# Altium footprint library adafruit.PCBLIB: 624 footprints (part 39 of 39)
Each footprint in its own frame and in the unit in brackets; x right, y up, seen from the top. Pads: shape width x height; smd on the part's side, far side on the other; paste and mask are expansions set on the pad; w line width, h text height; cw(c..) or ccw(c..) is an arc to the next point about the centre after c.
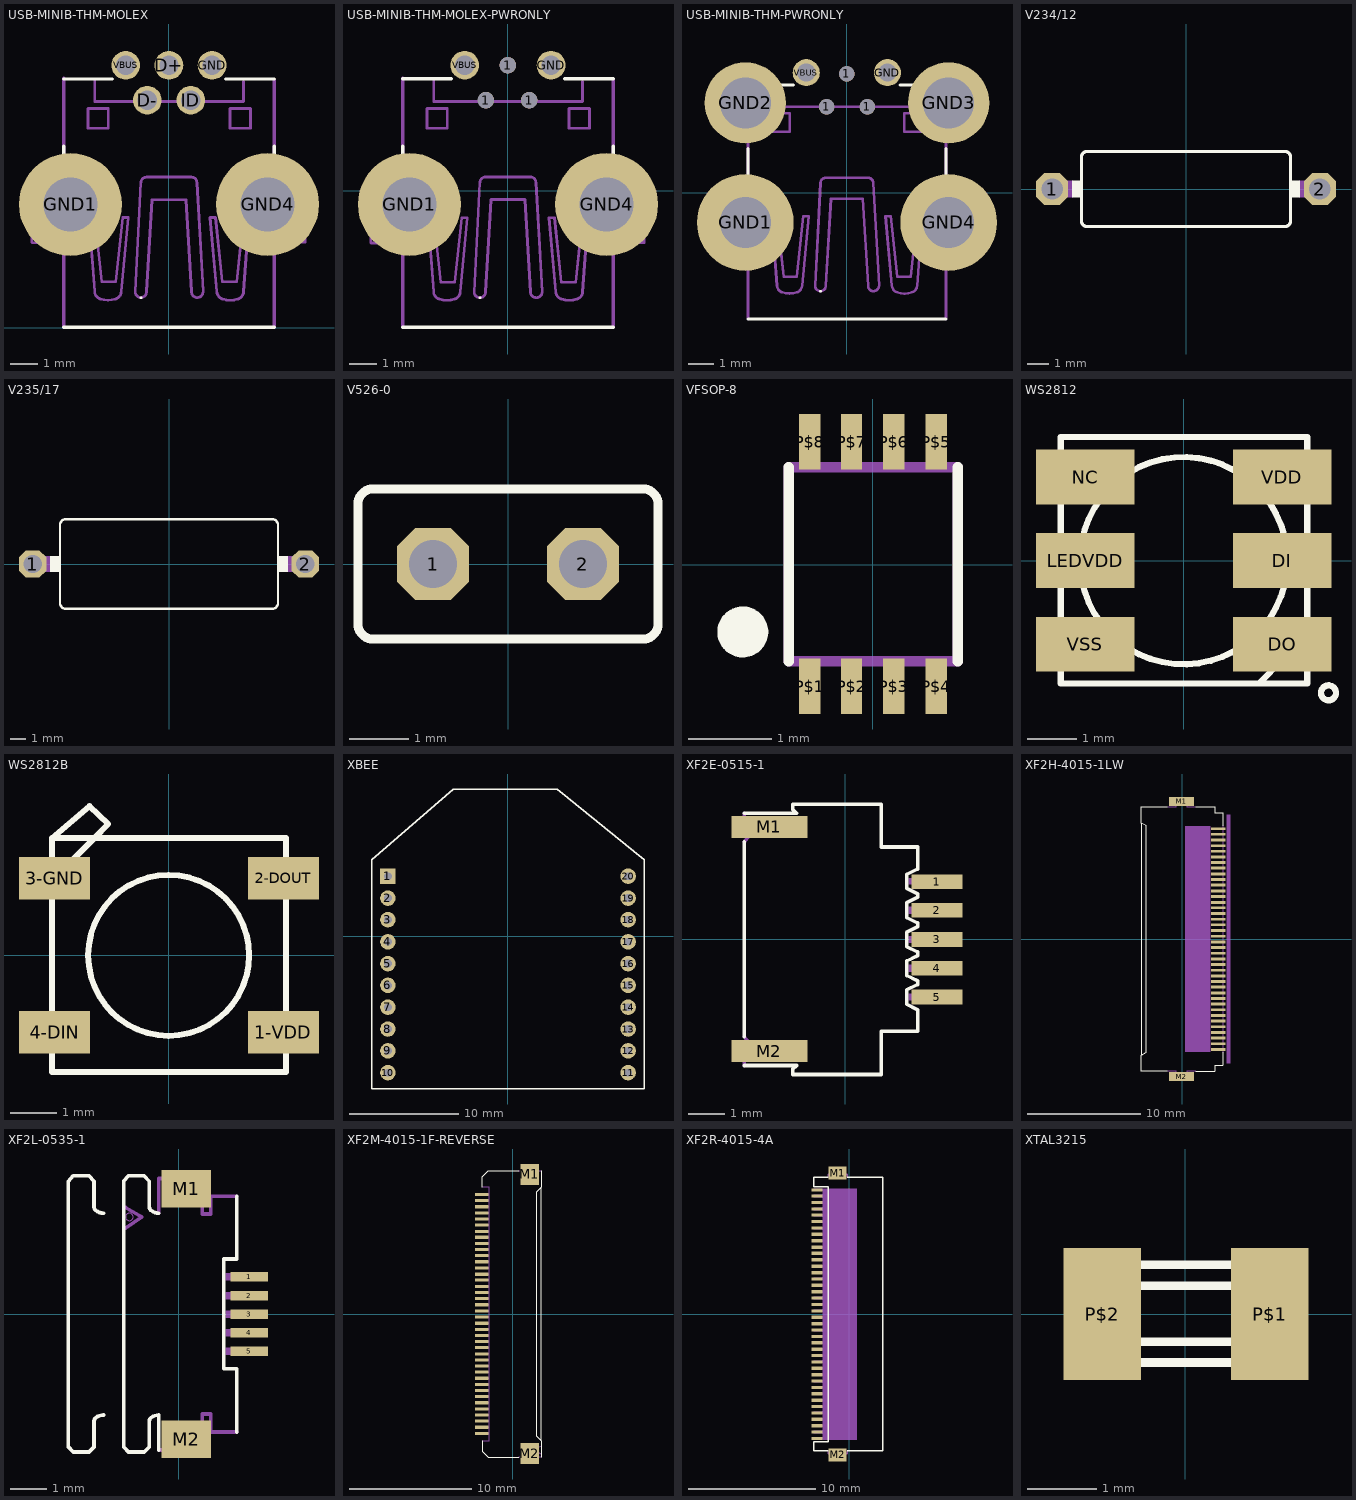
[diagram p38: the footprints below, top view; thin cyan lines are the x and y axes]

## USB-MINIB-THM-MOLEX [mil]
pads (7):
  round 42 hole 28: D+(0,383) D-(-31.5,332) GND(63,383) ID(32,332) VBUS(-62.99,383)
  round 150 hole 79: GND1(-143.7,180) GND4(144,180)
Top Overlay:
  lines w4: -40.88,44 -40.87,44
  lines w5: -153.54,1 154,1 ; -153.54,159 -153.54,265 ; -153.54,363 -82.68,363 ; 83,363 154,363 ; 154,182 154,265
Mechanical 16:
  lines w4: -200,125 -200,138 ccw(c-200,150) -200,162 -200,178 ; -199.21,124 -153.94,124 ; -199.21,178 -153.94,178 ; -108.27,360 -108.27,330 109,330 109,360 ; -40.88,44 cw(c-40.46,52.59) -49.05,53 -40.88,212 cw(c-32.33,211.44) -32.7,220 33,220 cw(c32.54,211.54) 41,212 50,53 cw(c41,53) 41,44 cw(c41.5,52.5) 33,53 25,187 -24.54,187 -32.7,53 cw(c-41.29,52.59) -40.87,44 ; 153,125 199,125 ; 153,179 199,179 199,165 ccw(c199,153) 199,141 199,126 ; -118.11,291 -88.58,291 -88.58,320 -118.11,320 -118.11,291 ; -116.5,161 -108.32,53 ccw(c-96.18,53.49) -100.15,42 ccw(c-88.91,78.66) -77.67,42 ccw(c-81.64,53.49) -69.49,53 -59.27,161 -67.45,161 -77.67,67 -98.11,67 -108.32,161 -116.5,161 ; 60,161 70,53 ccw(c82.06,53.36) 78,42 ccw(c89.5,79.5) 101,42 ccw(c96.94,53.36) 109,53 117,161 109,161 99,67 78,67 68,161 60,161 ; 89,291 89,320 119,320 119,291 89,291
  lines w5: -153.54,1 -153.54,123 ; -153.54,179 -153.54,364 ; 154,1 154,123 ; 154,181 154,362

## USB-MINIB-THM-MOLEX-PWRONLY [mil]
pads (7):
  round 24 hole 24: 1(-32,132) 1(0,183) 1(31,132)
  round 42 hole 28: GND(63,183) VBUS(-62.99,183)
  round 150 hole 79: GND1(-143.7,-20.08) GND4(144,-20.08)
Top Overlay:
  lines w4: -40.88,-156.15 -40.87,-156.15
  lines w5: -153.54,-199.21 154,-199.21 ; -153.54,-41.73 -153.54,65 ; -153.54,163 -82.68,163 ; 83,163 154,163 ; 154,-18.11 154,65
Mechanical 16:
  lines w4: -200,-75.98 -200,-62.2 ccw(c-200,-50.39) -200,-38.58 -200,-22.83 ; -199.21,-76.35 -153.94,-76.35 ; -199.21,-22.08 -153.94,-22.08 ; -108.27,160 -108.27,130 109,130 109,160 ; -40.88,-156.15 cw(c-40.88,-147.97) -49.05,-147.97 -40.88,12 cw(c-32.33,11.44) -32.7,20 33,20 cw(c32.54,11.54) 41,12 50,-147.97 cw(c41.41,-147.56) 41,-156.15 cw(c41.09,-148.06) 33,-147.97 25,-13.08 -24.54,-13.08 -32.7,-147.97 cw(c-40.87,-147.97) -40.87,-156.15 ; 153,-75.56 199,-75.56 ; 153,-21.28 199,-21.28 ; 199,-74.8 199,-59.06 cw(c199,-47.24) 199,-35.43 199,-21.65 ; -118.11,91 -88.58,91 -88.58,120 -118.11,120 -118.11,91 ; -116.5,-39.65 -108.32,-147.97 ccw(c-96.75,-147.09) -100.15,-158.19 ccw(c-88.91,-121.53) -77.67,-158.19 ccw(c-81.06,-147.09) -69.49,-147.97 -59.27,-39.65 -67.45,-39.65 -77.67,-133.67 -98.11,-133.67 -108.32,-39.65 -116.5,-39.65 ; 60,-39.65 70,-147.97 ccw(c81.48,-147.22) 78,-158.19 ccw(c89.5,-120.69) 101,-158.19 ccw(c97.52,-147.22) 109,-147.97 117,-39.65 109,-39.65 99,-133.67 78,-133.67 68,-39.65 60,-39.65 ; 89,91 89,120 119,120 119,91 89,91
  lines w5: -153.54,-199.21 -153.54,-77.17 ; -153.54,-21.65 -153.54,164 ; 154,-199.21 154,-77.17 ; 154,-19.68 154,162

## USB-MINIB-THM-PWRONLY [mil]
pads (9):
  round 24 hole 24: 1(-31.5,133) 1(0,184) 1(32,133)
  round 42 hole 28: GND(63,186) VBUS(-62.99,186)
  round 150 hole 79: GND1(-157.48,-46.46) GND4(158,-46.46)
  round 126 hole 79: GND2(-157.48,139) GND3(158,139)
Top Overlay:
  lines w4: -40.88,-153 -40.87,-153
  lines w5: -153.54,-196.06 154,-196.06 ; -153.54,-38.58 -153.54,68 ; -125.98,167 -82.68,167 ; 83,167 126,167 ; 154,-14.96 154,68
Mechanical 16:
  lines w4: -200,-72.83 -200,-59.06 ccw(c-200,-47.24) -200,-35.43 -200,-19.68 ; -200,99 -200,112 ccw(c-200,124) -200,136 -200,152 ; -199.21,-73.2 -153.94,-73.2 ; -199.21,-18.93 -153.94,-18.93 ; -199.21,98 -153.94,98 ; -199.21,152 -153.94,152 ; -108.27,163 -108.27,133 109,133 109,163 ; -40.88,-153 cw(c-40.88,-144.82) -49.05,-144.82 -40.88,15 cw(c-32.33,14.44) -32.7,23 33,23 cw(c32.54,14.54) 41,15 50,-144.82 cw(c41.41,-144.41) 41,-153 cw(c41.09,-144.91) 33,-144.82 25,-9.93 -24.54,-9.93 -32.7,-144.82 cw(c-40.87,-144.82) -40.87,-153 ; 153,-72.41 199,-72.41 ; 153,-18.13 199,-18.13 ; 153,99 199,99 ; 153,153 199,153 199,139 ccw(c199,127) 199,115 199,100 ; 199,-71.65 199,-55.91 cw(c199,-44.09) 199,-32.28 199,-18.5 ; -118.11,94 -88.58,94 -88.58,123 -118.11,123 -118.11,94 ; -116.5,-36.5 -108.32,-144.82 ccw(c-96.75,-143.94) -100.15,-155.04 ccw(c-88.91,-118.38) -77.67,-155.04 ccw(c-81.06,-143.94) -69.49,-144.82 -59.27,-36.5 -67.45,-36.5 -77.67,-130.52 -98.11,-130.52 -108.32,-36.5 -116.5,-36.5 ; 60,-36.5 70,-144.82 ccw(c81.48,-144.07) 78,-155.04 ccw(c89.5,-117.54) 101,-155.04 ccw(c97.52,-144.07) 109,-144.82 117,-36.5 109,-36.5 99,-130.52 78,-130.52 68,-36.5 60,-36.5 ; 89,94 89,123 119,123 119,94 89,94
  lines w5: -153.54,-196.06 -153.54,-74.02 ; -153.54,-18.5 -153.54,96 ; -153.54,153 -153.54,167 ; 154,-196.06 154,-74.02 ; 154,-16.54 154,98 ; 154,155 154,167

## V234/12 [mil]
pads (2):
  oct 60x60 hole 40: 1(-250,0) 2(250,0)
Top Overlay:
  rectangle: 195,-16 213,16
  rectangle: -213,-16 -195,16
  lines w6: -195,-60 ccw(c-185,-60) -185,-70 185,-70 ccw(c185,-60) 195,-60 195,60 ccw(c185,60) 185,70 -185,70 ccw(c-185,60) -195,60 -195,-60
Mechanical 16:
  lines w32: -250,0 -215,0 ; 215,0 250,0

## V235/17 [mil]
pads (2):
  oct 70.5x70.5 hole 47: 1(-350,0) 2(350,0)
Top Overlay:
  rectangle: 280,-20 305,20
  rectangle: -305,-20 -280,20
  lines w6: -280,-100 -280,100 cw(c-265,100) -265,115 265,115 cw(c265,100) 280,100 280,-100 cw(c265,-100) 265,-115 -265,-115 cw(c-265,-100) -280,-100
Mechanical 16:
  lines w40: -350,0 -310,0 ; 310,0 350,0

## V526-0 [mil]
pads (2):
  oct 48x48 hole 32: 1(-50,0) 2(50,0)
Top Overlay:
  lines w6: -100,-40 ccw(c-90,-40) -90,-50 90,-50 ccw(c90,-40) 100,-40 100,40 ccw(c90,40) 90,50 -90,50 ccw(c-90,40) -100,40 -100,-40

## VFSOP-8 [mil]
pads (8):
  rect 10x26 smd: P$1(-29.53,-57.09) P$2(-9.84,-57.09) P$3(10,-57.09) P$4(30,-57.09) P$5(30,58) P$6(10,58) P$7(-9.84,58) P$8(-29.53,58)
Top Overlay:
  circle w12: c-61.02,-31.5 r6
  lines w5: -39.37,-45.28 -39.37,46 ; 40,-45.28 40,46
Mechanical 16:
  rectangle: -13.78,-61.02 -5.91,-45.28
  rectangle: -33.46,-61.02 -25.59,-45.28
  rectangle: 6,-61.02 14,-45.28
  rectangle: 26,-61.02 34,-45.28
  rectangle: 26,46 34,62
  rectangle: 6,46 14,62
  rectangle: -13.78,46 -5.91,62
  rectangle: -33.46,46 -25.59,62
  lines w5: -39.37,-45.28 40,-45.28 40,46 -39.37,46 -39.37,-45.28

## WS2812 [mil]
pads (6):
  rect 79x44 smd: DI(79,0) DO(79,-66.93) LEDVDD(-78.74,0) NC(-78.74,67) VDD(79,67) VSS(-78.74,-66.93)
Top Overlay:
  circle w5: c116,-105.83 r6
  circle w5: c0,0 r83
  lines w5: 60,-98.43 99,-98.43 99,-59.06 ; 60,-98.43 -98.43,-98.43 -98.43,99 99,99 99,-59.06 ; 60,-98.43 99,-59.06

## WS2812B [mil]
pads (4):
  rect 60x36 smd: 1-VDD(97,-64.96) 2-DOUT(97,65) 3-GND(-96.46,65) 4-DIN(-96.46,-64.96)
Top Overlay:
  circle w5: c0,0 r68
  lines w5: -98.43,63 -98.43,-98.43 99,-98.43 99,99 -62.99,99 ; -98.43,63 -98.43,99 ; -98.43,63 -62.99,99 ; -98.43,99 -62.99,99 ; -98.43,99 -66.93,126 -51.18,111 -62.99,99

## XBEE [mil]
pads (20):
  rect 56x56 hole 28: 1(-433.07,217)
  round 56 hole 28: 2(-433.07,138) 3(-433.07,60) 4(-433.07,-19.68) 5(-433.07,-98.43) 6(-433.07,-177.17) 7(-433.07,-255.91) 8(-433.07,-334.65) 9(-433.07,-413.39) 10(-433.07,-492.13) 11(434,-492.13) 12(434,-413.39) 13(434,-334.65) 14(434,-255.91) 15(434,-177.17) 16(434,-98.43) 17(434,-19.68) 18(434,60) 19(434,138) 20(434,217)
Top Overlay:
  lines w5: -492.13,-551.18 493,-551.18 493,276 178,532 -196.85,532 -492.13,276 -492.13,-551.18

## XF2E-0515-1 [mil]
pads (7):
  rect 56x16 smd: 1(100,63) 2(100,32) 3(100,0) 4(100,-31.5) 5(100,-62.99)
  rect 83x24 smd: M1(-83.07,123) M2(-83.07,-122.05)
Top Overlay:
  lines w4: -110.63,-137.8 -53.54,-137.8 -57.48,-141.73 -57.48,-147.64 39,-147.64 39,-100.39 79,-100.39 79,-76.77 67,-70.87 67,-55.12 79,-49.21 79,-45.28 67,-39.37 67,-23.62 79,-17.72 79,-13.78 67,-7.87 67,8 79,14 79,18 67,24 67,40 79,46 79,50 67,56 67,71 79,77 79,101 39,101 39,148 -57.48,148 -57.48,142 -53.54,138 -110.63,138 ; -110.63,-106.3 -110.63,107
Mechanical 16:
  rectangle: 69,60 108,67
  rectangle: 69,28 108,36
  rectangle: 69,-3.94 108,4
  rectangle: 69,-35.43 108,-27.56
  rectangle: 69,-66.93 108,-59.06
  lines w4: -110.63,-137.8 -110.63,-116.14 -102.76,-116.14 -110.63,-106.3 ; -110.63,107 -102.76,117 -110.63,117 -110.63,138

## XF2H-4015-1LW [mil]
pads (42):
  rect 52x10 smd: 1(125,384) 2(125,365) 3(125,345) 4(125,325) 5(125,306) 6(125,286) 7(125,266) 8(125,247) 9(125,227) 10(125,207) 11(125,188) 12(125,168) 13(125,148) 14(125,128) 15(125,109) 16(125,89) 17(125,69) 18(125,50) 19(125,30) 20(125,10) 21(125,-9.84) 22(125,-29.53) 23(125,-49.21) 24(125,-68.9) 25(125,-88.58) 26(125,-108.27) 27(125,-127.95) 28(125,-147.64) 29(125,-167.32) 30(125,-187.01) 31(125,-206.69) 32(125,-226.38) 33(125,-246.06) 34(125,-265.75) 35(125,-285.43) 36(125,-305.12) 37(125,-324.8) 38(125,-344.49) 39(125,-364.17) 40(125,-383.86)
  rect 87x32 smd: M1(-2.95,479) M2(-2.95,-478.35)
Top Overlay:
  lines w4: -52.17,-460.63 -142.72,-460.63 -142.72,-403.54 ; -52.17,461 -142.72,461 -142.72,404 ; 47,-460.63 112,-460.63 112,-438.98 141,-438.98 141,-393.7 ; 47,461 112,461 112,439 141,439 141,394 ; -142.72,-403.54 -125,-393.7 -125,394 -142.72,404 ; -142.72,-403.54 -142.72,404
Top Solder:
  rectangle: 98,377 153,391
  rectangle: 98,358 153,372
  rectangle: 98,338 153,352
  rectangle: 98,318 153,332
  rectangle: 98,299 153,313
  rectangle: 98,279 153,293
  rectangle: 98,259 153,273
  rectangle: 98,240 153,253
  rectangle: 98,220 153,234
  rectangle: 98,200 153,214
  rectangle: 98,181 153,194
  rectangle: 98,161 153,175
  rectangle: 98,141 153,155
  rectangle: 98,122 153,135
  rectangle: 98,102 153,116
  rectangle: 98,82 153,96
  rectangle: 98,63 153,76
  rectangle: 98,43 153,57
  rectangle: 98,23 153,37
  rectangle: 98,3 153,17
  rectangle: 98,-16.73 153,-2.95
  rectangle: 98,-36.42 153,-22.64
  rectangle: 98,-56.1 153,-42.32
  rectangle: 98,-75.79 153,-62.01
  rectangle: 98,-95.47 153,-81.69
  rectangle: 98,-115.16 153,-101.38
  rectangle: 98,-134.84 153,-121.06
  rectangle: 98,-154.53 153,-140.75
  rectangle: 98,-174.21 153,-160.43
  rectangle: 98,-193.9 153,-180.12
  rectangle: 98,-213.58 153,-199.8
  rectangle: 98,-233.27 153,-219.49
  rectangle: 98,-252.95 153,-239.17
  rectangle: 98,-272.64 153,-258.86
  rectangle: 98,-292.32 153,-278.54
  rectangle: 98,-312.01 153,-298.23
  rectangle: 98,-331.69 153,-317.91
  rectangle: 98,-351.38 153,-337.6
  rectangle: 98,-371.06 153,-357.28
  rectangle: 98,-390.75 153,-376.97
Mechanical 10:
  rectangle: 9,-393.7 98,394
Mechanical 16:
  lines w4: -52.17,-460.63 -20.67,-460.63 -20.67,-472.44 15,-472.44 15,-460.63 47,-460.63 ; -52.17,461 -20.67,461 -20.67,473 15,473 15,461 47,461 ; 141,-393.7 141,394
Mechanical 27:
  rectangle: 153,-433.07 168,434

## XF2L-0535-1 [mil]
pads (7):
  rect 40x10 smd: 1(75,40) 2(75,20) 3(75,0) 4(75,-19.68) 5(75,-39.37)
  rect 53x40 smd: M1(8,134) M2(8,-133.37)
Top Overlay:
  lines w4: -80.33,-107.5 ccw(c-80.32,-120.82) -88.72,-110.48 ccw(c-85.54,-114.4) -90.59,-114.4 -90.59,-141.64 -96,-147.05 -112.79,-147.05 -117.91,-141.73 -117.91,142 -112.79,148 -96,148 -90.59,142 -90.59,115 ccw(c-85.46,114.96) -88.72,111 ccw(c-80.3,121.33) -80.33,108 ; -21.27,-145 -21.27,-107.5 ccw(c-21.27,-120.82) -29.67,-110.48 ccw(c-26.49,-114.4) -31.54,-114.4 -31.54,-141.64 -36.95,-147.05 -53.74,-147.05 -58.86,-141.73 -58.86,142 -53.74,148 -36.95,148 -31.54,142 -31.54,115 ccw(c-26.4,114.96) -29.67,111 ccw(c-21.24,121.33) -21.27,108 ; 61,59 48,59 48,-58.24 62,-58.24 62,-125.59 ; 62,59 62,126
Top Solder:
  rectangle: 54,33 97,47
  rectangle: 54,13 97,27
  rectangle: 54,-6.89 97,7
  rectangle: 54,-26.57 97,-12.8
  rectangle: 54,-46.26 97,-32.48
Mechanical 2:
  circle w0: c-52.8,104 r4
  lines w4: -56.72,92 -39.56,104 -56.72,114
Mechanical 16:
  rectangle: 5,-145.67 32,-125
  rectangle: -17.52,-145.67 5,-114.17
  rectangle: 5,-145.67 32,-125
  rectangle: -17.52,-145.67 5,-114.17
  rectangle: 5,125 32,146
  rectangle: -17.52,115 5,146
  rectangle: 50,36 78,44
  rectangle: 50,16 78,24
  rectangle: 50,-3.94 78,4
  rectangle: 50,-23.62 78,-15.75
  rectangle: 50,-43.31 78,-35.43
  lines w4: -21.27,-145 21,-145 21,-125.97 -0.75,-125.97 -0.75,-120.19 25,-120.19 25,-106.56 34,-106.56 34,-125.59 62,-125.59 ; -21.27,108 -21.27,145 21,145 21,126 -0.75,126 -0.75,121 25,121 25,107 34,107 34,126 62,126
  text "Lower-contact" at -19.68,89 h13.6

## XF2M-4015-1F-REVERSE [mil]
pads (42):
  rect 44x10 smd: 1(-100,384) 2(-100,365) 3(-100,345) 4(-100,325) 5(-100,306) 6(-100,286) 7(-100,266) 8(-100,247) 9(-100,227) 10(-100,207) 11(-100,188) 12(-100,168) 13(-100,148) 14(-100,128) 15(-100,109) 16(-100,89) 17(-100,69) 18(-100,50) 19(-100,30) 20(-100,10) 21(-100,-9.84) 22(-100,-29.53) 23(-100,-49.21) 24(-100,-68.9) 25(-100,-88.58) 26(-100,-108.27) 27(-100,-127.95) 28(-100,-147.64) 29(-100,-167.32) 30(-100,-187.01) 31(-100,-206.69) 32(-100,-226.38) 33(-100,-246.06) 34(-100,-265.75) 35(-100,-285.43) 36(-100,-305.12) 37(-100,-324.8) 38(-100,-344.49) 39(-100,-364.17) 40(-100,-383.86)
  rect 60x67 smd: M1(54,449) M2(54,-448.82)
Top Overlay:
  lines w4: -98.03,-407.48 -98.03,-440.94 -78.35,-460.63 19,-460.63 ; -98.03,408 -98.03,441 -78.35,461 19,461 ; 91,-460.63 91,-407.48 ; 91,461 91,408 ; 91,-407.48 76,-391.73 76,392 91,408 ; 91,-407.48 91,408
Mechanical 16:
  region: -77.36,-380.91 -111.81,-380.91 -111.81,-386.81 -77.36,-386.81
  region: -77.36,-361.22 -111.81,-361.22 -111.81,-367.13 -77.36,-367.13
  region: -77.36,-341.54 -111.81,-341.54 -111.81,-347.44 -77.36,-347.44
  region: -77.36,-321.85 -111.81,-321.85 -111.81,-327.76 -77.36,-327.76
  region: -77.36,-302.17 -111.81,-302.17 -111.81,-308.07 -77.36,-308.07
  region: -77.36,-282.48 -111.81,-282.48 -111.81,-288.39 -77.36,-288.39
  region: -77.36,-262.8 -111.81,-262.8 -111.81,-268.7 -77.36,-268.7
  region: -77.36,-243.11 -111.81,-243.11 -111.81,-249.02 -77.36,-249.02
  region: -77.36,-223.43 -111.81,-223.43 -111.81,-229.33 -77.36,-229.33
  region: -77.36,-203.74 -111.81,-203.74 -111.81,-209.65 -77.36,-209.65
  region: -77.36,-184.06 -111.81,-184.06 -111.81,-189.96 -77.36,-189.96
  region: -77.36,-164.37 -111.81,-164.37 -111.81,-170.28 -77.36,-170.28
  region: -77.36,-144.69 -111.81,-144.69 -111.81,-150.59 -77.36,-150.59
  region: -77.36,-125 -111.81,-125 -111.81,-130.91 -77.36,-130.91
  region: -77.36,-105.31 -111.81,-105.31 -111.81,-111.22 -77.36,-111.22
  region: -77.36,-85.63 -111.81,-85.63 -111.81,-91.54 -77.36,-91.54
  region: -77.36,-65.94 -111.81,-65.94 -111.81,-71.85 -77.36,-71.85
  region: -77.36,-46.26 -111.81,-46.26 -111.81,-52.17 -77.36,-52.17
  region: -77.36,-26.57 -111.81,-26.57 -111.81,-32.48 -77.36,-32.48
  region: -77.36,-6.89 -111.81,-6.89 -111.81,-12.8 -77.36,-12.8
  region: -77.36,13 -111.81,13 -111.81,7 -77.36,7
  region: -77.36,33 -111.81,33 -111.81,27 -77.36,27
  region: -77.36,53 -111.81,53 -111.81,47 -77.36,47
  region: -77.36,72 -111.81,72 -111.81,66 -77.36,66
  region: -77.36,92 -111.81,92 -111.81,86 -77.36,86
  region: -77.36,112 -111.81,112 -111.81,106 -77.36,106
  region: -77.36,131 -111.81,131 -111.81,125 -77.36,125
  region: -77.36,151 -111.81,151 -111.81,145 -77.36,145
  region: -77.36,171 -111.81,171 -111.81,165 -77.36,165
  region: -77.36,190 -111.81,190 -111.81,185 -77.36,185
  region: -77.36,210 -111.81,210 -111.81,204 -77.36,204
  region: -77.36,230 -111.81,230 -111.81,224 -77.36,224
  region: -77.36,250 -111.81,250 -111.81,244 -77.36,244
  region: -77.36,269 -111.81,269 -111.81,263 -77.36,263
  region: -77.36,289 -111.81,289 -111.81,283 -77.36,283
  region: -77.36,309 -111.81,309 -111.81,303 -77.36,303
  region: -77.36,328 -111.81,328 -111.81,322 -77.36,322
  region: -77.36,348 -111.81,348 -111.81,342 -77.36,342
  region: -77.36,368 -111.81,368 -111.81,362 -77.36,362
  region: -77.36,387 -111.81,387 -111.81,381 -77.36,381
  lines w4: -98.03,-407.48 -75.39,-407.48 -75.39,408 -98.03,408 ; 19,-460.63 36,-460.63 36,-472.44 76,-472.44 76,-460.63 91,-460.63 ; 19,461 36,461 36,473 76,473 76,461 91,461 ; 91,-450.79 68,-437.01 91,-423.23

## XF2R-4015-4A [mil]
pads (42):
  rect 34x10 smd: 1(-100,384) 2(-100,365) 3(-100,345) 4(-100,325) 5(-100,306) 6(-100,286) 7(-100,266) 8(-100,247) 9(-100,227) 10(-100,207) 11(-100,188) 12(-100,168) 13(-100,148) 14(-100,128) 15(-100,109) 16(-100,89) 17(-100,69) 18(-100,50) 19(-100,30) 20(-100,10) 21(-100,-9.84) 22(-100,-29.53) 23(-100,-49.21) 24(-100,-68.9) 25(-100,-88.58) 26(-100,-108.27) 27(-100,-127.95) 28(-100,-147.64) 29(-100,-167.32) 30(-100,-187.01) 31(-100,-206.69) 32(-100,-226.38) 33(-100,-246.06) 34(-100,-265.75) 35(-100,-285.43) 36(-100,-305.12) 37(-100,-324.8) 38(-100,-344.49) 39(-100,-364.17) 40(-100,-383.86)
  rect 56x40 smd: M1(-36.02,436) M2(-36.02,-435.04)
Top Overlay:
  lines w4: -65.55,-422.24 -108.86,-422.24 -108.86,-393.7 -65.55,-393.7 -65.55,394 -108.86,394 -108.86,423 -65.55,423 ; -6.5,-422.24 104,-422.24 104,423 -6.5,423
Top Solder:
  rectangle: -117.72,378 -82.28,390
  rectangle: -117.72,359 -82.28,371
  rectangle: -117.72,339 -82.28,351
  rectangle: -117.72,319 -82.28,331
  rectangle: -117.72,300 -82.28,312
  rectangle: -117.72,280 -82.28,292
  rectangle: -117.72,260 -82.28,272
  rectangle: -117.72,241 -82.28,252
  rectangle: -117.72,221 -82.28,233
  rectangle: -117.72,201 -82.28,213
  rectangle: -117.72,182 -82.28,193
  rectangle: -117.72,162 -82.28,174
  rectangle: -117.72,142 -82.28,154
  rectangle: -117.72,123 -82.28,134
  rectangle: -117.72,103 -82.28,115
  rectangle: -117.72,83 -82.28,95
  rectangle: -117.72,63 -82.28,75
  rectangle: -117.72,44 -82.28,56
  rectangle: -117.72,24 -82.28,36
  rectangle: -117.72,4 -82.28,16
  rectangle: -117.72,-15.75 -82.28,-3.94
  rectangle: -117.72,-35.43 -82.28,-23.62
  rectangle: -117.72,-55.12 -82.28,-43.31
  rectangle: -117.72,-74.8 -82.28,-62.99
  rectangle: -117.72,-94.49 -82.28,-82.68
  rectangle: -117.72,-114.17 -82.28,-102.36
  rectangle: -117.72,-133.86 -82.28,-122.05
  rectangle: -117.72,-153.54 -82.28,-141.73
  rectangle: -117.72,-173.23 -82.28,-161.42
  rectangle: -117.72,-192.91 -82.28,-181.1
  rectangle: -117.72,-212.6 -82.28,-200.79
  rectangle: -117.72,-232.28 -82.28,-220.47
  rectangle: -117.72,-251.97 -82.28,-240.16
  rectangle: -117.72,-271.65 -82.28,-259.84
  rectangle: -117.72,-291.34 -82.28,-279.53
  rectangle: -117.72,-311.02 -82.28,-299.21
  rectangle: -117.72,-330.71 -82.28,-318.9
  rectangle: -117.72,-350.39 -82.28,-338.58
  rectangle: -117.72,-370.08 -82.28,-358.27
  rectangle: -117.72,-389.76 -82.28,-377.95
Mechanical 10:
  region: 24,389 -82.28,389 -82.28,-388.78 24,-388.78
Mechanical 16:
  rectangle: -110.83,380 -67.52,388
  rectangle: -110.83,361 -67.52,369
  rectangle: -110.83,341 -67.52,349
  rectangle: -110.83,321 -67.52,329
  rectangle: -110.83,302 -67.52,310
  rectangle: -110.83,282 -67.52,290
  rectangle: -110.83,262 -67.52,270
  rectangle: -110.83,243 -67.52,250
  rectangle: -110.83,223 -67.52,231
  rectangle: -110.83,203 -67.52,211
  rectangle: -110.83,184 -67.52,191
  rectangle: -110.83,164 -67.52,172
  rectangle: -110.83,144 -67.52,152
  rectangle: -110.83,125 -67.52,132
  rectangle: -110.83,105 -67.52,113
  rectangle: -110.83,85 -67.52,93
  rectangle: -110.83,65 -67.52,73
  rectangle: -110.83,46 -67.52,54
  rectangle: -110.83,26 -67.52,34
  rectangle: -110.83,6 -67.52,14
  rectangle: -110.83,-13.78 -67.52,-5.91
  rectangle: -110.83,-33.46 -67.52,-25.59
  rectangle: -110.83,-53.15 -67.52,-45.28
  rectangle: -110.83,-72.83 -67.52,-64.96
  rectangle: -110.83,-92.52 -67.52,-84.65
  rectangle: -110.83,-112.2 -67.52,-104.33
  rectangle: -110.83,-131.89 -67.52,-124.02
  rectangle: -110.83,-151.57 -67.52,-143.7
  rectangle: -110.83,-171.26 -67.52,-163.39
  rectangle: -110.83,-190.94 -67.52,-183.07
  rectangle: -110.83,-210.63 -67.52,-202.76
  rectangle: -110.83,-230.31 -67.52,-222.44
  rectangle: -110.83,-250 -67.52,-242.13
  rectangle: -110.83,-269.69 -67.52,-261.81
  rectangle: -110.83,-289.37 -67.52,-281.5
  rectangle: -110.83,-309.06 -67.52,-301.18
  rectangle: -110.83,-328.74 -67.52,-320.87
  rectangle: -110.83,-348.43 -67.52,-340.55
  rectangle: -110.83,-368.11 -67.52,-360.24
  rectangle: -110.83,-387.8 -67.52,-379.92
  lines w4: -65.55,-422.24 -65.55,-431.1 -53.74,-431.1 -53.74,-450.79 -49.8,-450.79 -45.87,-446.85 -26.18,-446.85 -22.24,-450.79 -18.31,-450.79 -18.31,-431.1 -6.5,-431.1 -6.5,-422.24 ; -65.55,423 -65.55,432 -53.74,432 -53.74,451 -49.8,451 -45.87,447 -26.18,447 -22.24,451 -18.31,451 -18.31,432 -6.5,432 -6.5,423

## XTAL3215 [mil]
pads (2):
  rect 44x75 smd: P$1(48,0) P$2(-47.24,0)
Top Overlay:
  lines w5: -62.99,-16.43 ccw(c-51.86,-16.43) -51.86,-27.56 52,-27.56 ccw(c51.93,-16.49) 63,-16.43 63,16 ccw(c51,16) 51,28 -54.19,28 ccw(c-54.09,19.1) -62.99,19 -62.99,-16.43 ; -51.18,-7.87 ccw(c-41.34,-5.91) -39.37,-15.75 40,-15.75 ccw(c40.09,-3.84) 52,-3.94 52,4 ccw(c40,4) 40,16 -43.31,16 ccw(c-41.25,6.07) -51.18,4 -51.18,-7.87